# EAGLE library part MCP73871 (library FiveVolt)
Stand-Alone System Load Sharing and Li-Ion / Li-Polymer Battery Charge Management Controller
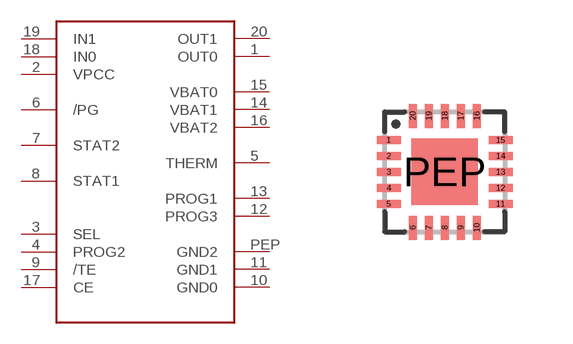
[diagram p12: symbol with the pads of QFN-20; footprint QFN-20]

Designator prefix U

## MCP73871  [QFN-20]
1  OUT0
2  VPCC
3  SEL
4  PROG2
5  THERM
6  /PG
7  STAT2
8  STAT1
9  /TE
10  GND0
11  GND1
12  PROG3
13  PROG1
14  VBAT1
15  VBAT0
16  VBAT2
17  CE
18  IN0
19  IN1
20  OUT1
PEP  GND2

## Footprint QFN-20 (pad centres in mm)
smd 0.6 x 0.2: 1 -1.4,0.8; 2 -1.4,0.4; 3 -1.4,0; 4 -1.4,-0.4; 5 -1.4,-0.8; 11 1.4,-0.8; 12 1.4,-0.4; 13 1.4,0; 14 1.4,0.4; 15 1.4,0.8
smd 0.2 x 0.6: 6 -0.8,-1.4; 7 -0.4,-1.4; 8 0,-1.4; 9 0.4,-1.4; 10 0.8,-1.4; 16 0.8,1.4; 17 0.4,1.4; 18 0,1.4; 19 -0.4,1.4; 20 -0.8,1.4
smd 1.651 x 1.651: PEP 0,0